# Altium schematic symbol library IC. ADC, DAC, DDS.SchLib: 10 symbols
Pins are listed as number, name and electrical type; pins without a type are passive.

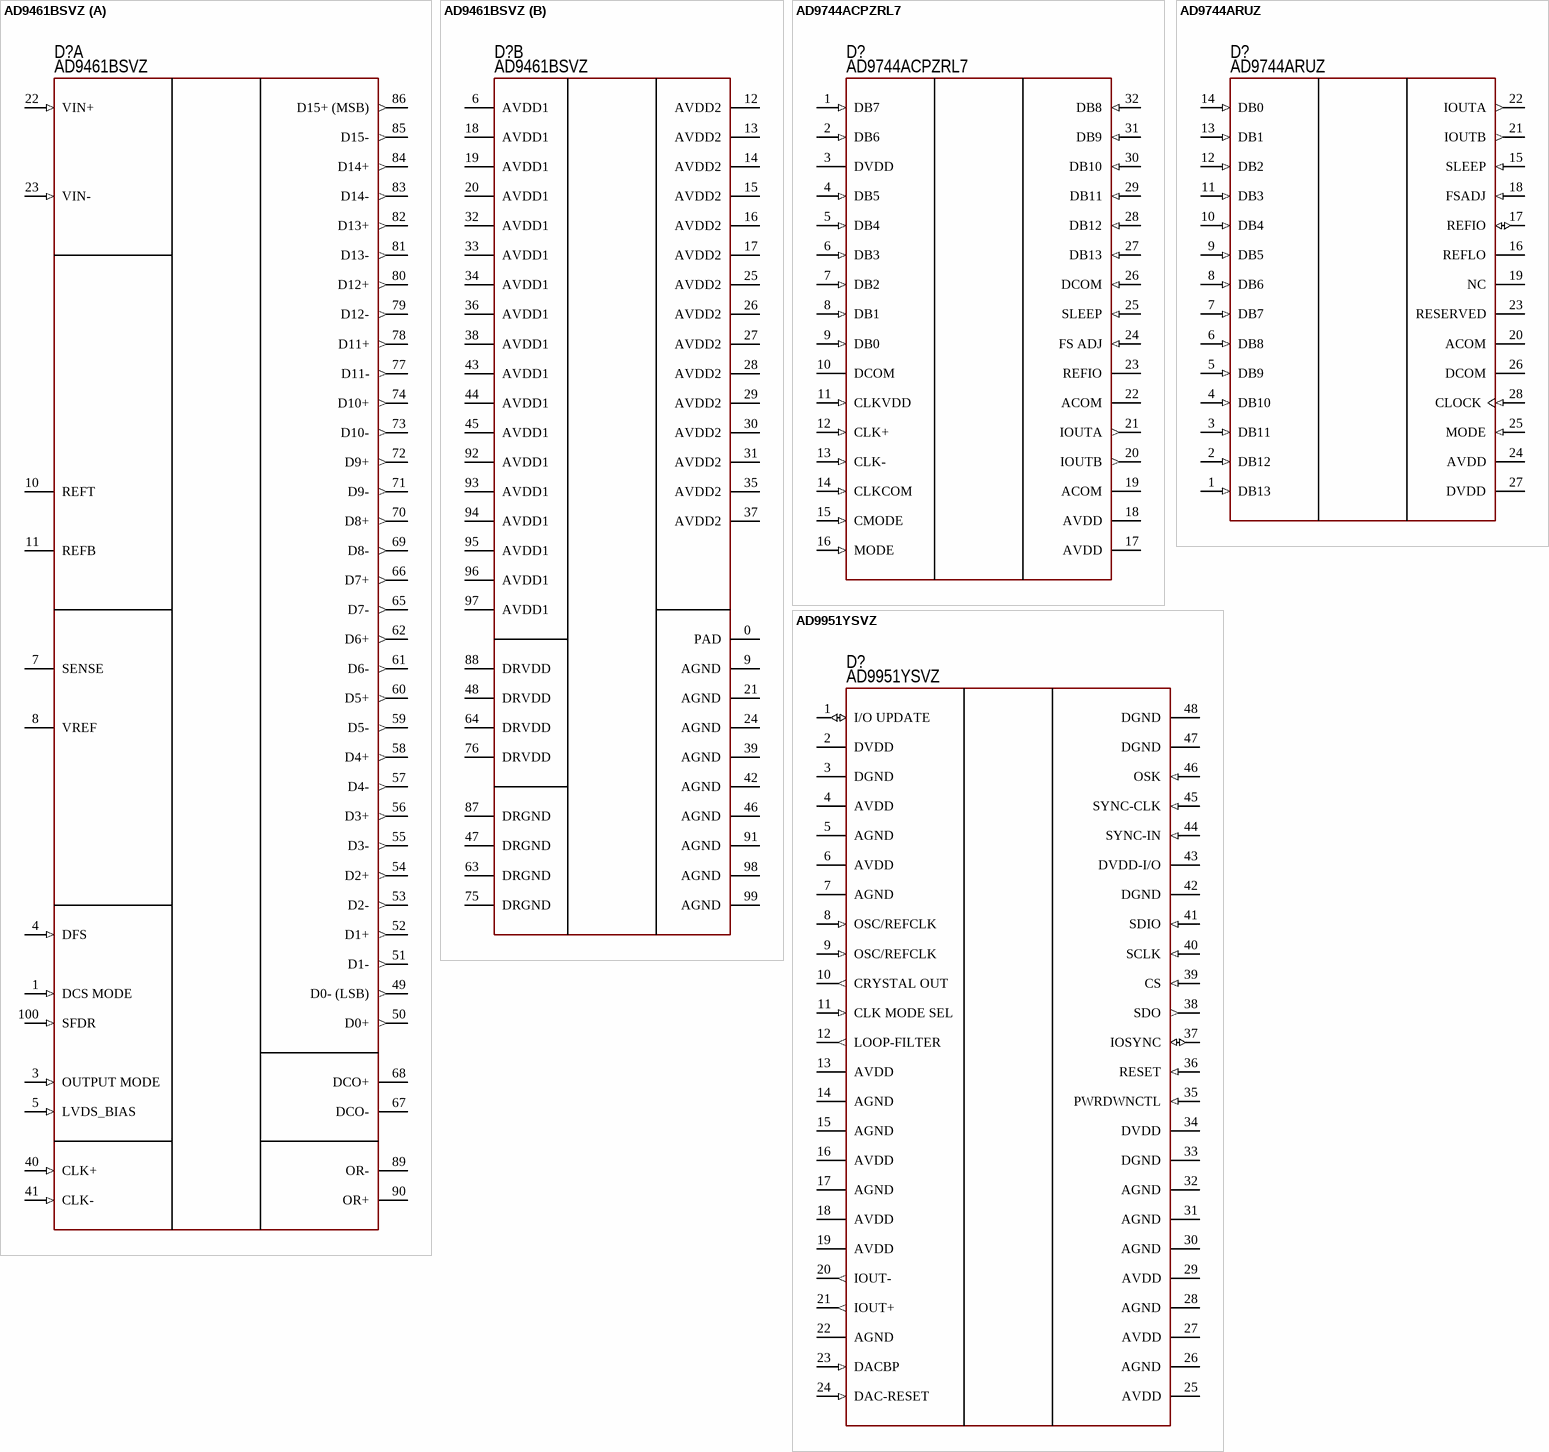
[diagram p0: symbols AD9461BSVZ to AD9951YSVZ]

## AD9461BSVZ
designator D?  PartNumber: AD9461BSVZ
RF ADC; Manufacturer: Analog Devices; ValueManufacturerPartNumber: IC RF ADC, 16 bit, 130 Msps, Parallel/LVDS, 3...3.6V, -40...+85°C, 100-TQFP; Supply: 3...3.6V; Speed: 130 Msps; InterfaceData: Parallel/LVDS; Resolution: 16 bit; HelpURL: https://www.digikey.com/products/en?keywords=AD9461BSVZ; Package: 100-TQFP; ComponentType: IC RF ADC; Temperature: -40...+85°C
footprint 100-LQFP-PAD (Thin QFP, 100-Leads, Body 14x14mm, Pitch 0.5mm, IPC Medium Density)
part A pins: 1 DCS MODE (in), 3 OUTPUT MODE (in), 4 DFS (in), 5 LVDS_BIAS (in), 7 SENSE (power), 8 VREF (power), 10 REFT (power), 11 REFB (power), 22 VIN+ (in), 23 VIN- (in), 40 CLK+ (in), 41 CLK- (in), 49 D0- (LSB) (out), 50 D0+ (out), 51 D1- (out), 52 D1+ (out), 53 D2- (out), 54 D2+ (out), 55 D3- (out), 56 D3+ (out), 57 D4- (out), 58 D4+ (out), 59 D5- (out), 60 D5+ (out), 61 D6- (out), 62 D6+ (out), 65 D7- (out), 66 D7+ (out), 67 DCO-, 68 DCO+, 69 D8- (out), 70 D8+ (out), 71 D9- (out), 72 D9+ (out), 73 D10- (out), 74 D10+ (out), 77 D11- (out), 78 D11+ (out), 79 D12- (out), 80 D12+ (out), 81 D13- (out), 82 D13+ (out), 83 D14- (out), 84 D14+ (out), 85 D15- (out), 86 D15+ (MSB) (out), 89 OR-, 90 OR+, 100 SFDR (in)
part B pins: 0 PAD (power), 6 AVDD1 (power), 9 AGND (power), 12 AVDD2 (power), 13 AVDD2 (power), 14 AVDD2 (power), 15 AVDD2 (power), 16 AVDD2 (power), 17 AVDD2 (power), 18 AVDD1 (power), 19 AVDD1 (power), 20 AVDD1 (power), 21 AGND (power), 24 AGND (power), 25 AVDD2 (power), 26 AVDD2 (power), 27 AVDD2 (power), 28 AVDD2 (power), 29 AVDD2 (power), 30 AVDD2 (power), 31 AVDD2 (power), 32 AVDD1 (power), 33 AVDD1 (power), 34 AVDD1 (power), 35 AVDD2 (power), 36 AVDD1 (power), 37 AVDD2 (power), 38 AVDD1 (power), 39 AGND (power), 42 AGND (power), 43 AVDD1 (power), 44 AVDD1 (power), 45 AVDD1 (power), 46 AGND (power), 47 DRGND (power), 48 DRVDD (power), 63 DRGND (power), 64 DRVDD (power), 75 DRGND (power), 76 DRVDD (power), 87 DRGND (power), 88 DRVDD (power), 91 AGND (power), 92 AVDD1 (power), 93 AVDD1 (power), 94 AVDD1 (power), 95 AVDD1 (power), 96 AVDD1 (power), 97 AVDD1 (power), 98 AGND (power), 99 AGND (power)

## AD9744ACPZRL7
designator D?  PartNumber: AD9744ACPZRL7
RF DAC; Manufacturer: Analog Devices; ValueManufacturerPartNumber: IC TxDAC, 14 bit, 210 Msps, Parallel, 2.7...3.6V, -40...+85°C, 32-WFQFN; Supply: 2.7...3.6V; Speed: 210 Msps; InterfaceData: Parallel; Resolution: 14 bit; HelpURL: https://www.digikey.com/product-detail/en/analog-devices-inc/AD9744ACPZRL7/AD9744ACPZRL7CT-ND/3740746; Package: 32-WFQFN; ComponentType: IC TxDAC; Temperature: -40...+85°C
footprint 32-QFN (5x5 mm, pitch 0.5 mm, power pad)
pins: 1 DB7 (in), 2 DB6 (in), 3 DVDD (power), 4 DB5 (in), 5 DB4 (in), 6 DB3 (in), 7 DB2 (in), 8 DB1 (in), 9 DB0 (in), 10 DCOM (power), 11 CLKVDD (in), 12 CLK+ (in), 13 CLK- (in), 14 CLKCOM (in), 15 CMODE (in), 16 MODE (in), 17 AVDD (power), 18 AVDD (power), 19 ACOM (power), 20 IOUTB (out), 21 IOUTA (out), 22 ACOM (power), 23 REFIO (power), 24 FS ADJ (in), 25 SLEEP (in), 26 DCOM (in), 27 DB13 (in), 28 DB12 (in), 29 DB11 (in), 30 DB10 (in), 31 DB9 (in), 32 DB8 (in)

## AD9744ARUZ
designator D?  PartNumber: AD9744ARUZ
RF DAC; Manufacturer: Analog Devices; ValueManufacturerPartNumber: IC TxDAC, 14 bit, 210 Msps, Parallel, 2.7...3.6V, -40...+85°C, 28-TSSOP; Supply: 2.7...3.6V; Speed: 210 Msps; InterfaceData: Parallel; Resolution: 14 bit; HelpURL: https://www.digikey.com/product-detail/en/analog-devices-inc/AD9744ARUZ/AD9744ARUZ-ND/936549; Package: 28-TSSOP; ComponentType: IC TxDAC; Temperature: -40...+85°C
footprint 28-TSSOP (pitch 0.65 mm)
pins: 1 DB13 (in) "Most Significant Data Bit (MSB).", 2 DB12 (in) "Data Bit 12", 3 DB11 (in) "Data Bit 11", 4 DB10 (in) "Data Bit 10", 5 DB9 (in) "Data Bit 9", 6 DB8 (in) "Data Bit 8", 7 DB7 (in) "Data Bit 7", 8 DB6 (in) "Data Bit 6", 9 DB5 (in) "Data Bit 5", 10 DB4 (in) "Data Bit 4", 11 DB3 (in) "Data Bit 3", 12 DB2 (in) "Data Bit 2", 13 DB1 (in) "Data Bit 1", 14 DB0 (in) "Least Significant Data Bit (LSB).", 15 SLEEP (in) "Power-Down Control Input. Active high. Contains active pull-down circuit; it may be left unterminated if not used.", 16 REFLO "Reference Ground when Internal 1.2 V Reference Used. Connect to ACOM for both internal and external reference operation modes.", 17 REFIO (io) "Reference Input/Output. Serves as reference input when using external reference. Serves as 1.2 V reference output when using internal reference. Requires 0.1 uF capacitor to ACOM when using internal reference.", 18 FSADJ (in) "Full-Scale Current Output Adjust.", 19 NC "No Internal Connection.", 20 ACOM (power) "Analog Common.", 21 IOUTB (out) "Complementary DAC Current Output. Full-scale current when all data bits are 0s.", 22 IOUTA (out) "DAC Current Output. Full-scale current when all data bits are 1s.", 23 RESERVED "Reserved. Do not connect to common or supply.", 24 AVDD (power) "Analog Supply Voltage (3.3 V).", 25 MODE (in) "Selects Input Data Format. Connect to DCOM for straight binary, DVDD for twos complement.", 26 DCOM (power) "Digital Common.", 27 DVDD (power) "Digital Supply Voltage (3.3 V).", 28 CLOCK (in) "Clock Input. Data latched on positive edge of clock."

## AD9951YSVZ
designator D?  PartNumber: AD9951YSVZ
DDS; Manufacturer: Analog Devices; ValueManufacturerPartNumber: IC DDS, 14 bit, 400 MHz, SPI, 1.71...1.96V, -40...+105°C, 48-TQFP; Supply: 1.71...1.96V; Speed: 400 MHz; InterfaceData: SPI; Resolution: 14 bit; HelpURL: https://www.digikey.com/products/en?keywords=AD9951YSVZ; Package: 48-TQFP; ComponentType: IC DDS; Temperature: -40...+105°C
footprint 48-LQFP (QFP, 48-Leads, Body 7x7mm, Pitch 0.5mm, IPC Medium Density)
pins: 1 I/O UPDATE (io), 2 DVDD (power), 3 DGND (power), 4 AVDD (power), 5 AGND (power), 6 AVDD (power), 7 AGND (power), 8 OSC/REFCLK (in), 9 OSC/REFCLK (in), 10 CRYSTAL OUT (out), 11 CLK MODE SEL (in), 12 LOOP-FILTER (out), 13 AVDD (power), 14 AGND (power), 15 AGND (power), 16 AVDD (power), 17 AGND (power), 18 AVDD (power), 19 AVDD (power), 20 IOUT- (out), 21 IOUT+ (out), 22 AGND (power), 23 DACBP (in), 24 DAC-RESET (in), 25 AVDD (power), 26 AGND (power), 27 AVDD (power), 28 AGND (power), 29 AVDD (power), 30 AGND (power), 31 AGND (power), 32 AGND (power), 33 DGND (power), 34 DVDD (power), 35 PWRDWNCTL (in), 36 RESET (in), 37 IOSYNC (io), 38 SDO (out), 39 CS (in), 40 SCLK (in), 41 SDIO (in), 42 DGND (power), 43 DVDD-I/O (power), 44 SYNC-IN (in), 45 SYNC-CLK (in), 46 OSK (in), 47 DGND (power), 48 DGND (power)

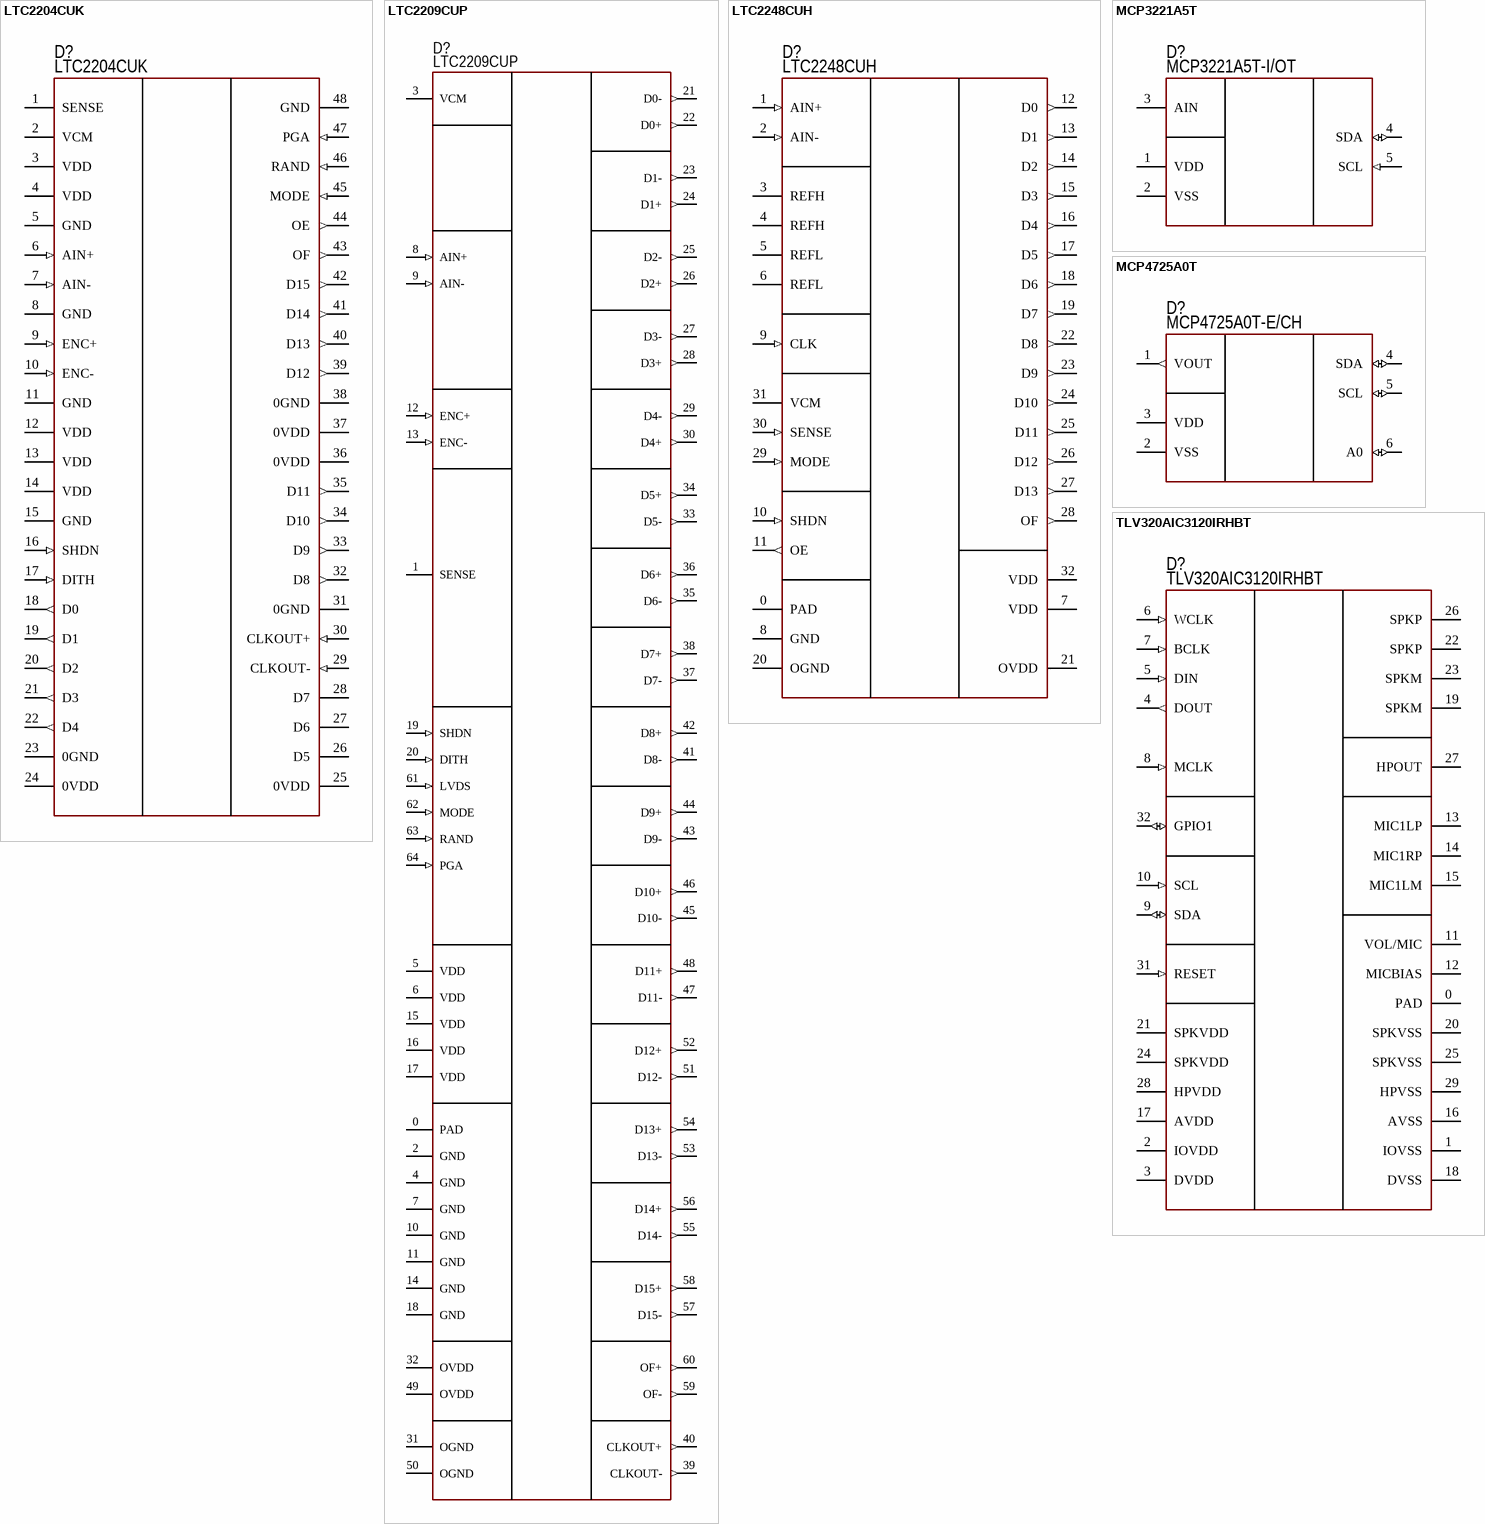
[diagram p1: symbols LTC2204CUK to TLV320AIC3120IRHBT]

## LTC2204CUK
designator D?  PartNumber: LTC2204CUK
RF ADC; Manufacturer: Linear Technology; ValueManufacturerPartNumber: IC RF ADC, 16 bit, 40 Msps, Parallel, 3.135...3.465V, 0...+70°C, 48-WFQFN; Supply: 3.135...3.465V; Speed: 40 Msps; InterfaceData: Parallel; Resolution: 16 bit; HelpURL: https://www.digikey.com/products/en?keywords=AD9461BSVZ; Package: 48-WFQFN; ComponentType: IC RF ADC; Temperature: 0...+70°C
footprint 48-QFN (7x7) (7x7 mm, pitch 0.5 mm, power pad)
pins: 1 SENSE (power), 2 VCM (power), 3 VDD (power), 4 VDD (power), 5 GND (power), 6 AIN+ (in), 7 AIN- (in), 8 GND (power), 9 ENC+ (in), 10 ENC- (in), 11 GND (power), 12 VDD (power), 13 VDD (power), 14 VDD (power), 15 GND (power), 16 SHDN (in), 17 DITH (in), 18 D0 (out), 19 D1 (out), 20 D2 (out), 21 D3 (out), 22 D4 (out), 23 0GND (power), 24 0VDD (power), 25 0VDD (power), 26 D5, 27 D6, 28 D7, 29 CLKOUT- (in), 30 CLKOUT+ (in), 31 0GND (power), 32 D8 (out), 33 D9 (out), 34 D10 (out), 35 D11 (out), 36 0VDD (power), 37 0VDD (power), 38 0GND (power), 39 D12 (out), 40 D13 (out), 41 D14 (out), 42 D15 (out), 43 OF (out), 44 OE (out), 45 MODE (in), 46 RAND (in), 47 PGA (in), 48 GND (power)

## LTC2209CUP
designator D?  PartNumber: LTC2209CUP
RF ADC; Manufacturer: Linear Technology; ValueManufacturerPartNumber: IC RF ADC, 16 bit, 160 Msps, Parallel/LVDS, 3.135...3.465V, 0...+70°C, 64-WFQFN; Supply: 3.135...3.465V; Speed: 160 Msps; InterfaceData: Parallel/LVDS; Resolution: 16 bit; HelpURL: https://www.digikey.com/product-detail/en/linear-technology-analog-devices/LTC2209CUP-PBF/LTC2209CUP-PBF-ND/1730243; Package: 64-WFQFN; ComponentType: IC RF ADC; Temperature: 0...+70°C
footprint 64-QFN (9x9 mm, pitch 0.5 mm, power pad)
pins: 0 PAD (power), 1 SENSE (power), 2 GND (power), 3 VCM (power), 4 GND (power), 5 VDD (power), 6 VDD (power), 7 GND (power), 8 AIN+ (in), 9 AIN- (in), 10 GND (power), 11 GND (power), 12 ENC+ (in), 13 ENC- (in), 14 GND (power), 15 VDD (power), 16 VDD (power), 17 VDD (power), 18 GND (power), 19 SHDN (in), 20 DITH (in), 21 D0- (out), 22 D0+ (out), 23 D1- (out), 24 D1+ (out), 25 D2- (out), 26 D2+ (out), 27 D3- (out), 28 D3+ (out), 29 D4- (out), 30 D4+ (out), 31 OGND (power), 32 OVDD (power), 33 D5- (out), 34 D5+ (out), 35 D6- (out), 36 D6+ (out), 37 D7- (out), 38 D7+ (out), 39 CLKOUT- (out), 40 CLKOUT+ (out), 41 D8- (out), 42 D8+ (out), 43 D9- (out), 44 D9+ (out), 45 D10- (out), 46 D10+ (out), 47 D11- (out), 48 D11+ (out), 49 OVDD (power), 50 OGND (power), 51 D12- (out), 52 D12+ (out), 53 D13- (out), 54 D13+ (out), 55 D14- (out), 56 D14+ (out), 57 D15- (out), 58 D15+ (out), 59 OF- (out), 60 OF+ (out), 61 LVDS (in), 62 MODE (in), 63 RAND (in), 64 PGA (in)

## LTC2248CUH
designator D?  PartNumber: LTC2248CUH
RF ADC; Manufacturer: Linear Technology; ValueManufacturerPartNumber: IC RF ADC, 14 bit, 65 Msps, Parallel, 2.7...3.4V, 0...+70°C, 32-WFQFN; Supply: 2.7...3.4V; Speed: 65 Msps; InterfaceData: Parallel; Resolution: 14 bit; HelpURL: https://www.digikey.com/product-detail/en/linear-technology-analog-devices/LTC2248CUH-PBF/LTC2248CUH-PBF-ND/966497; Package: 32-WFQFN; ComponentType: IC RF ADC; Temperature: 0...+70°C
footprint 32-QFN (5x5 mm, pitch 0.5 mm, power pad)
pins: 0 PAD, 1 AIN+ (in), 2 AIN- (in), 3 REFH, 4 REFH, 5 REFL, 6 REFL, 7 VDD, 8 GND, 9 CLK (in), 10 SHDN (in), 11 OE (out), 12 D0 (out), 13 D1 (out), 14 D2 (out), 15 D3 (out), 16 D4 (out), 17 D5 (out), 18 D6 (out), 19 D7 (out), 20 OGND, 21 OVDD, 22 D8 (out), 23 D9 (out), 24 D10 (out), 25 D11 (out), 26 D12 (out), 27 D13 (out), 28 OF (out), 29 MODE (in), 30 SENSE (in), 31 VCM, 32 VDD

## MCP3221A5T
designator D?  PartNumber: MCP3221A5T-I/OT
ADC; Manufacturer: Microchip; ValueManufacturerPartNumber: IC ADC, 12 bit, 22.3 ksps, I2C, 2.7...5.5V, -40...+125°C, SOT-23-5; Supply: 2.7...5.5V; Speed: 22.3 ksps; InterfaceData: I2C; Resolution: 12 bit; HelpURL: https://www.digikey.com/product-detail/en/microchip-technology/MCP3221A5T-I-OT/MCP3221A5T-I-OTCT-ND/529836; Package: SOT-23-5; ComponentType: IC ADC; Temperature: -40...+125°C
footprint SOT23-5 (pitch 0.95 mm)
pins: 1 VDD, 2 VSS, 3 AIN, 4 SDA (io), 5 SCL (in)

## MCP4725A0T
designator D?  PartNumber: MCP4725A0T-E/CH
DAC; Manufacturer: Microchip Technology; ValueManufacturerPartNumber: IC DAC, 12 bit, 6µs, I2C, 2.7...5.5V, -40...+125°C, SOT-23-6; Supply: 2.7...5.5V; Speed: 6µs; InterfaceData: I2C; Resolution: 12 bit; HelpURL: https://www.digikey.com/product-detail/en/microchip-technology/MCP4725A0T-E-CH/MCP4725A0T-E-CHCT-ND/1817328; Package: SOT-23-6; ComponentType: IC DAC; Temperature: -40...+125°C
footprint SOT23-6 (pitch 0.95 mm)
pins: 1 VOUT (out), 2 VSS (power), 3 VDD (power), 4 SDA (io), 5 SCL (io), 6 A0 (io)

## TLV320AIC3120IRHBT
designator D?  PartNumber: TLV320AIC3120IRHBT
Audio codec; Manufacturer: Texas Instruments; ValueManufacturerPartNumber: IC audio codec, 32 bit, I2C/I2S, 2.7...3.6V, -40...+85°C, 32-VFQFN; Supply: 2.7...3.6V; InterfaceData: I2C/I2S; Resolution: 32 bit; HelpURL: https://www.digikey.com/product-detail/en/texas-instruments/TLV320AIC3120IRHBT/296-25815-1-ND/2233636; Package: 32-VFQFN; ComponentType: IC audio codec; Temperature: -40...+85°C
footprint 32-QFN (5x5 mm, pitch 0.5 mm, power pad)
pins: 0 PAD, 1 IOVSS, 2 IOVDD, 3 DVDD, 4 DOUT (out), 5 DIN (in), 6 WCLK (in), 7 BCLK (in), 8 MCLK (in), 9 SDA (io), 10 SCL (in), 11 VOL/MIC, 12 MICBIAS, 13 MIC1LP, 14 MIC1RP, 15 MIC1LM, 16 AVSS, 17 AVDD, 18 DVSS, 19 SPKM, 20 SPKVSS, 21 SPKVDD, 22 SPKP, 23 SPKM, 24 SPKVDD, 25 SPKVSS, 26 SPKP, 27 HPOUT, 28 HPVDD, 29 HPVSS, 31 RESET (in), 32 GPIO1 (io)